# Altium schematic symbol library FG28X7R1E105KRT06.SchLib: 1 symbol
Pins are listed as number, name and electrical type; pins without a type are passive.

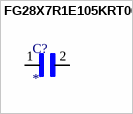
[diagram p0: symbol FG28X7R1E105KRT06]

## FG28X7R1E105KRT06
designator C?
Cap Ceramic 1uF 25V X7R 10% Radial 5mm 125Â°C Ammo; MF: TDK; MP: FG28X7R1E105KRT06; DigiKey_Part_Number: 445-173583-1-ND; Purchase-URL: https://pricing.snapeda.com/search?q=FG28X7R1E105KRT06&ref=eda; Package: RADIAL-2 TDK; Check_prices: https://www.snapeda.com/parts/FG28X7R1E105KRT06/TDK/view-part/?ref=eda; Value: *; SnapEDA_Link: https://www.snapeda.com/parts/FG28X7R1E105KRT06/TDK/view-part/?ref=snap
footprint CAPRB500W50L400T250H550
pins: 1, 2